# Altium footprint library Synthiam.PcbLib: 481 footprints (part 16 of 31)
Each footprint in its own frame and in the unit in brackets; x right, y up, seen from the top. Pads: shape width x height; smd on the part's side, far side on the other; paste and mask are expansions set on the pad; w line width, h text height; cw(c..) or ccw(c..) is an arc to the next point about the centre after c.
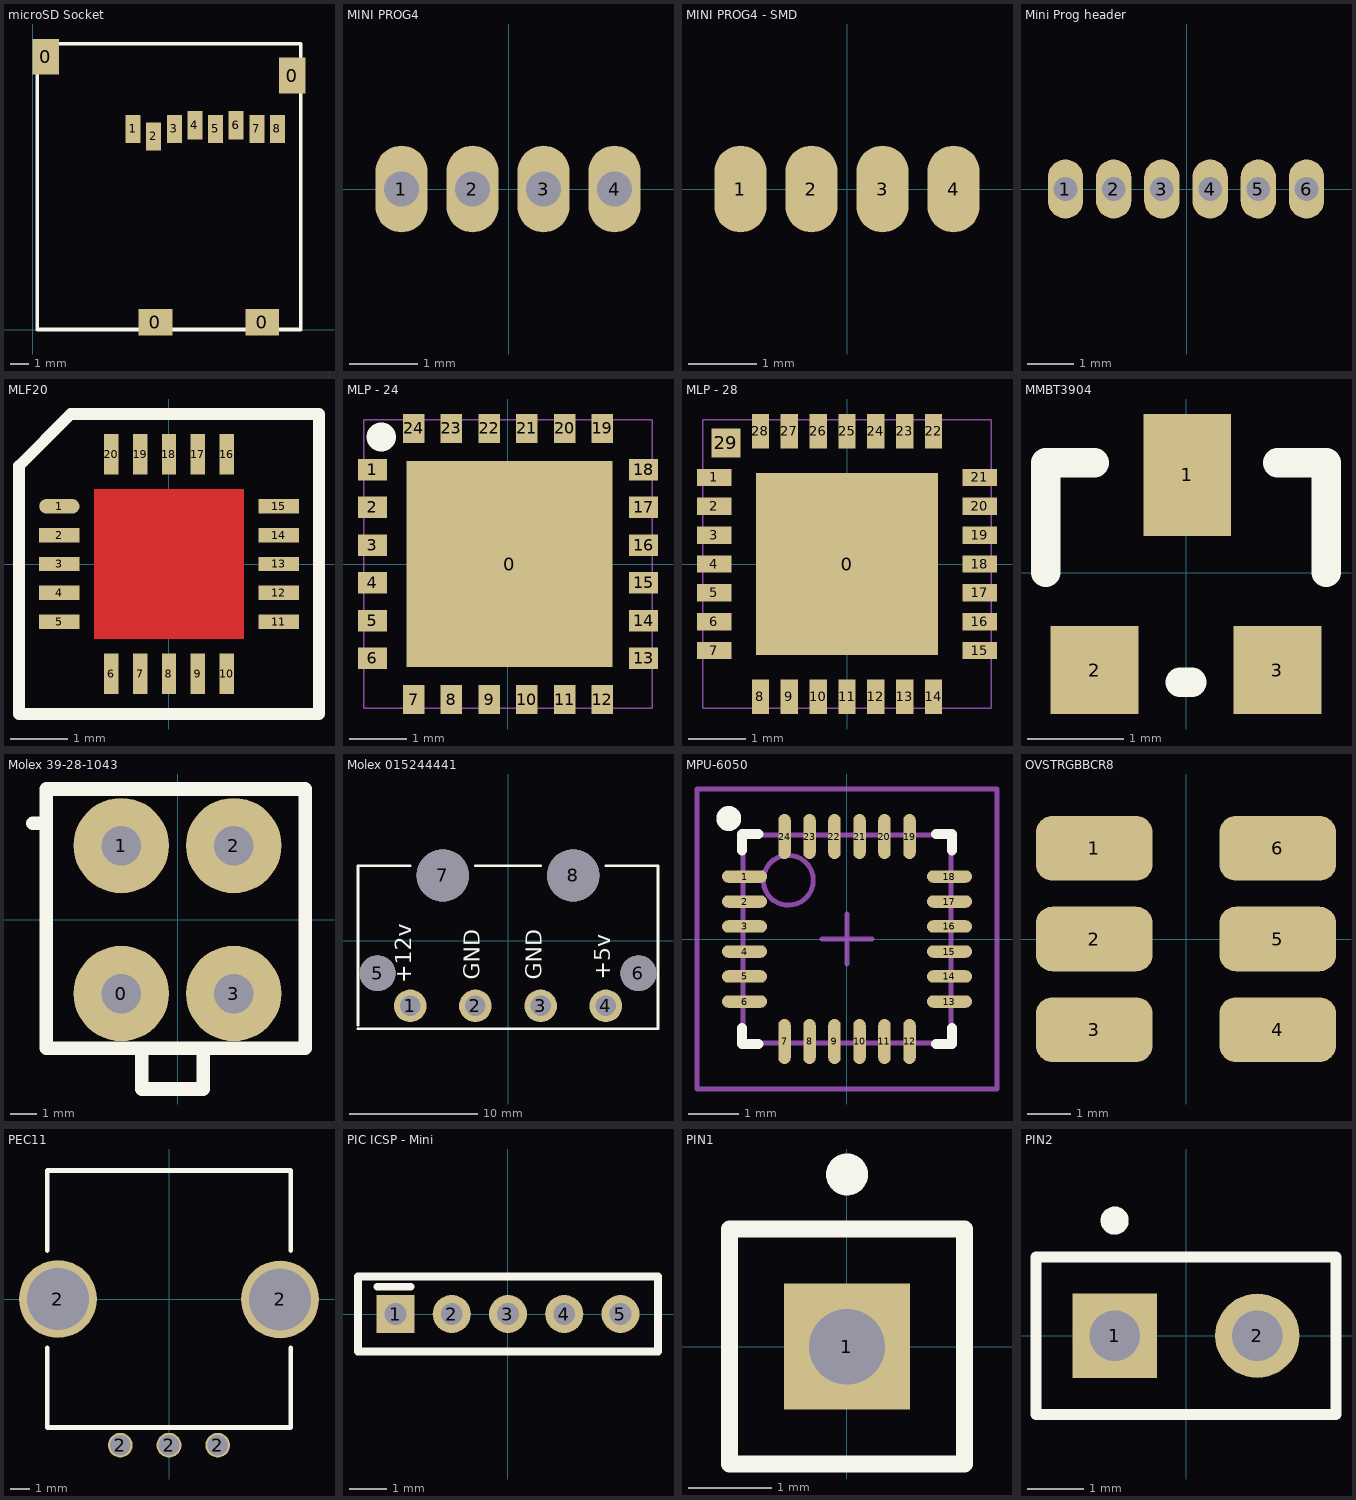
[diagram p15: the footprints below, top view; thin cyan lines are the x and y axes]

## microSD Socket [mm]
pads (12):
  rect 1.4x1.9 smd: 0(0.7,14.55) 0(13.85,13.55)
  rect 1.8x1.4 smd: 0(6.55,0.4) 0(12.25,0.4)
  rect 0.8x1.5 smd: 1(5.36,10.7) 2(6.46,10.3) 3(7.56,10.7) 4(8.66,10.9) 5(9.76,10.7) 6(10.86,10.9) 7(11.96,10.7) 8(13.06,10.7)
Top Overlay:
  lines w0.203: 0.25,0 0.25,15.25 14.3,15.25 14.3,0 0.25,0

## MINI PROG4 [mil]
pads (4):
  oval 30x50 hole 20: 1(-61.74,0) 2(-20.84,0) 3(20.05,0) 4(60.95,0)

## MINI PROG4 - SMD [mil]
pads (4):
  oval 30x50 smd: 1(-61.34,0) 2(-20.45,0) 3(20.45,0) 4(61.34,0)

## Mini Prog header [mil]
pads (6):
  oval 30x50 hole 20: 1(-102.74,0) 2(-61.84,0) 3(-20.95,0) 4(19.95,0) 5(60.84,0) 6(101.74,0)

## MLF20 [mm] "20M1, 20-pad, 4x4x0.8mm, Lead Pitch 0.6mm, 2.6mm exposed pad, MLF"
height 0.8
pads (20):
  oval 0.7x0.25 smd: 1(-1.9,1)
  rect 0.7x0.25 smd: 2(-1.9,0.5) 3(-1.9,0) 4(-1.9,-0.5) 5(-1.9,-1) 11(1.9,-1) 12(1.9,-0.5) 13(1.9,0) 14(1.9,0.5) 15(1.9,1)
  rect 0.25x0.7 smd: 6(-1,-1.9) 7(-0.5,-1.9) 8(0,-1.9) 9(0.5,-1.9) 10(1,-1.9) 16(1,1.9) 17(0.5,1.9) 18(0,1.9) 19(-0.5,1.9) 20(-1,1.9)
Top Layer:
  rectangle: -1.3,-1.3 1.3,1.3
Top Overlay:
  lines w0.2: -1.715,2.585 -2.6,1.7 -2.6,-2.6 2.6,-2.6 2.6,2.6 -1.7,2.6

## MLP - 24 [mm]
pads (25):
  rect 3.57x3.57 smd paste-1.1: 0(0.03,0)
  rect 0.5x0.37 smd: 1(-2.35,1.635) 2(-2.35,0.981) 3(-2.35,0.327) 4(-2.35,-0.327) 5(-2.35,-0.981) 6(-2.35,-1.635) 13(2.35,-1.635) 14(2.35,-0.981) 15(2.35,-0.327) 16(2.35,0.327) 17(2.35,0.981) 18(2.35,1.635)
  rect 0.37x0.5 smd: 7(-1.635,-2.35) 8(-0.981,-2.35) 9(-0.327,-2.35) 10(0.327,-2.35) 11(0.981,-2.35) 12(1.635,-2.35) 19(1.635,2.35) 20(0.981,2.35) 21(0.327,2.35) 22(-0.327,2.35) 23(-0.981,2.35) 24(-1.635,2.35)
Top Overlay:
  lines w0.508: -2.198,2.2 -2.192,2.2
Mechanical 1:
  lines w0.025: -2.5,-2.5 -2.5,2.5 2.5,2.5 2.5,-2.5 -2.5,-2.5

## MLP - 28 [mm]
pads (30):
  rect 3.15x3.15 smd paste-1.1: 0(0,0)
  rect 0.6x0.3 smd: 1(-2.3,1.5) 2(-2.3,1) 3(-2.3,0.5) 4(-2.3,0) 5(-2.3,-0.5) 6(-2.3,-1) 7(-2.3,-1.5) 15(2.3,-1.5) 16(2.3,-1) 17(2.3,-0.5) 18(2.3,0) 19(2.3,0.5) 20(2.3,1) 21(2.3,1.5)
  rect 0.3x0.6 smd: 8(-1.5,-2.3) 9(-1,-2.3) 10(-0.5,-2.3) 11(0,-2.3) 12(0.5,-2.3) 13(1,-2.3) 14(1.5,-2.3) 22(1.5,2.3) 23(1,2.3) 24(0.5,2.3) 25(0,2.3) 26(-0.5,2.3) 27(-1,2.3) 28(-1.5,2.3)
  rect 0.5x0.5 smd paste-0.05: 29(-2.1,2.1)
Mechanical 1:
  lines w0.025: -2.5,-2.5 2.5,-2.5 2.5,2.5 -2.5,2.5 -2.5,-2.5

## MMBT3904 [mil]
pads (3):
  rect 36x50 smd: 1(0.5,40)
  rect 36x36 smd: 2(-37.5,-40) 3(37.5,-40)
Top Overlay:
  lines w12: -57.5,0 -57.5,45 -37.5,45 ; -2.5,-45 2.5,-45 ; 37.5,45 57.5,45 57.5,0

## Molex 39-28-1043 [mil] "4 Pos'n power header"
height 500
pads (4):
  round 140 hole 58: 0(-82.5,-108.5) 1(-82.5,108.5) 2(82.5,108.5) 3(82.5,-108.5)
Top Overlay:
  lines w20: -212.5,141.5 -202.5,141.5 ; -52.5,-188.5 -52.5,-248.5 37.5,-248.5 37.5,-188.5 ; -192.5,-188.5 187.5,-188.5 187.5,191.5 -192.5,191.5 -192.5,-188.5
3D body: height 503.94, standoff -137.8, extent -202.5,-235.04 206.95,198.04

## Molex 015244441 [mil] "90 degree 4-post power connector"
pads (8):
  round 100 hole 63: 1(-300,-200) 2(-100,-200) 3(100,-200) 4(300,-200)
  round 110 hole 110: 5(-400,-100) 6(400,-100)
  round 160 hole 160: 7(-200,200) 8(200,200)
Top Overlay:
  lines w8: -460,-270 460,-270 460,230 300,230 ; -460,-260 -460,230 -300,230 ; -100,230 100,230
  text "GND" at -70,-120 h85
  text "GND" at 120,-120 h85
  text "+12v" at -280,-130 h85
  text "+5v" at 330,-120 h85
3D body: height 346, standoff -139, extent -456,-228.75 460,308.75

## MPU-6050 [mm]
pads (24):
  oval 0.9x0.25 smd: 1(-2.05,1.25) 2(-2.05,0.75) 3(-2.05,0.25) 4(-2.05,-0.25) 5(-2.05,-0.75) 6(-2.05,-1.25) 13(2.05,-1.25) 14(2.05,-0.75) 15(2.05,-0.25) 16(2.05,0.25) 17(2.05,0.75) 18(2.05,1.25)
  oval 0.25x0.9 smd: 7(-1.25,-2.05) 8(-0.75,-2.05) 9(-0.25,-2.05) 10(0.25,-2.05) 11(0.75,-2.05) 12(1.25,-2.05) 19(1.25,2.05) 20(0.75,2.05) 21(0.25,2.05) 22(-0.25,2.05) 23(-0.75,2.05) 24(-1.25,2.05)
Top Overlay:
  circle w0.25: c-2.365,2.41 r0.125
  lines w0.2: -2.1,-1.775 -2.1,-2.1 -1.775,-2.1 ; -2.1,1.775 -2.1,2.1 -1.775,2.1 ; 1.775,-2.1 2.1,-2.1 2.1,-1.775 ; 1.775,2.1 2.1,2.1 2.1,1.775
Mechanical 13:
  circle w0.1: c-1.175,1.175 r0.5
  lines w0.1: -2.075,-2.075 2.075,-2.075 2.075,2.075 -2.075,2.075 -2.075,-2.075
Mechanical 15:
  lines w0.1: -0.5,0 0.5,0 ; 0,-0.5 0,0.5 ; -3,-3 3,-3 3,3 -3,3 -3,-3
3D body: height 0.8, standoff 0, extent -2.075,-2.075 2.075,2.075

## OVSTRGBBCR8 [mm]
pads (6):
  rrect50% 2.7x1.5 smd: 1(-2.125,2.1) 2(-2.125,0) 3(-2.125,-2.1) 4(2.125,-2.1) 5(2.125,0) 6(2.125,2.1)

## PEC11 [mm] "Bourns PEC11"
height 6.5
pads (5):
  round 4 hole 3.175: 2(-5.7,0) 2(5.7,-0.02)
  round 1.27 hole 1.067: 2(-2.5,-7.5) 2(0,-7.5) 2(2.5,-7.5)
Top Overlay:
  lines w0.254: -6.25,-2.5 -6.25,-6.6 6.25,-6.6 6.25,-2.5 ; -6.25,2.5 -6.25,6.6 6.25,6.6 6.25,2.5

## PIC ICSP - Mini [mil]
pads (5):
  rect 40x40 hole 23: 1(-118.11,0)
  round 40 hole 23: 2(-59.05,0) 3(0,0) 4(59.05,0) 5(118.11,0)
Top Overlay:
  lines w8: -137.38,28.56 -102.09,28.56 ; -157.48,-39.37 157.48,-39.37 157.48,39.37 -157.48,39.37 -157.48,-39.37

## PIN1 [mm] "Generic Antenna; 1 Lead"
pads (1):
  rect 1.5x1.5 hole 0.9: 1(0,0)
Top Overlay:
  circle w0.25: c0,2.05 r0.125
  lines w0.2: -1.4,-1.4 1.4,-1.4 1.4,1.4 -1.4,1.4 -1.4,-1.4

## PIN2 [mm] "Photosensitive Diode; 2 Leads"
pads (2):
  rect 1.5x1.5 hole 0.9: 1(-1.27,0)
  round 1.5 hole 0.9: 2(1.27,0)
Top Overlay:
  circle w0.25: c-1.27,2.05 r0.125
  lines w0.2: -2.67,-1.4 -2.67,1.4 2.67,1.4 2.67,-1.4 -2.67,-1.4